# Altium footprint library Ports3.96.PcbLib: 14 footprints
Each footprint in its own frame and in the unit in brackets; x right, y up, seen from the top. Pads: shape width x height; smd on the part's side, far side on the other; paste and mask are expansions set on the pad; w line width, h text height; cw(c..) or ccw(c..) is an arc to the next point about the centre after c.
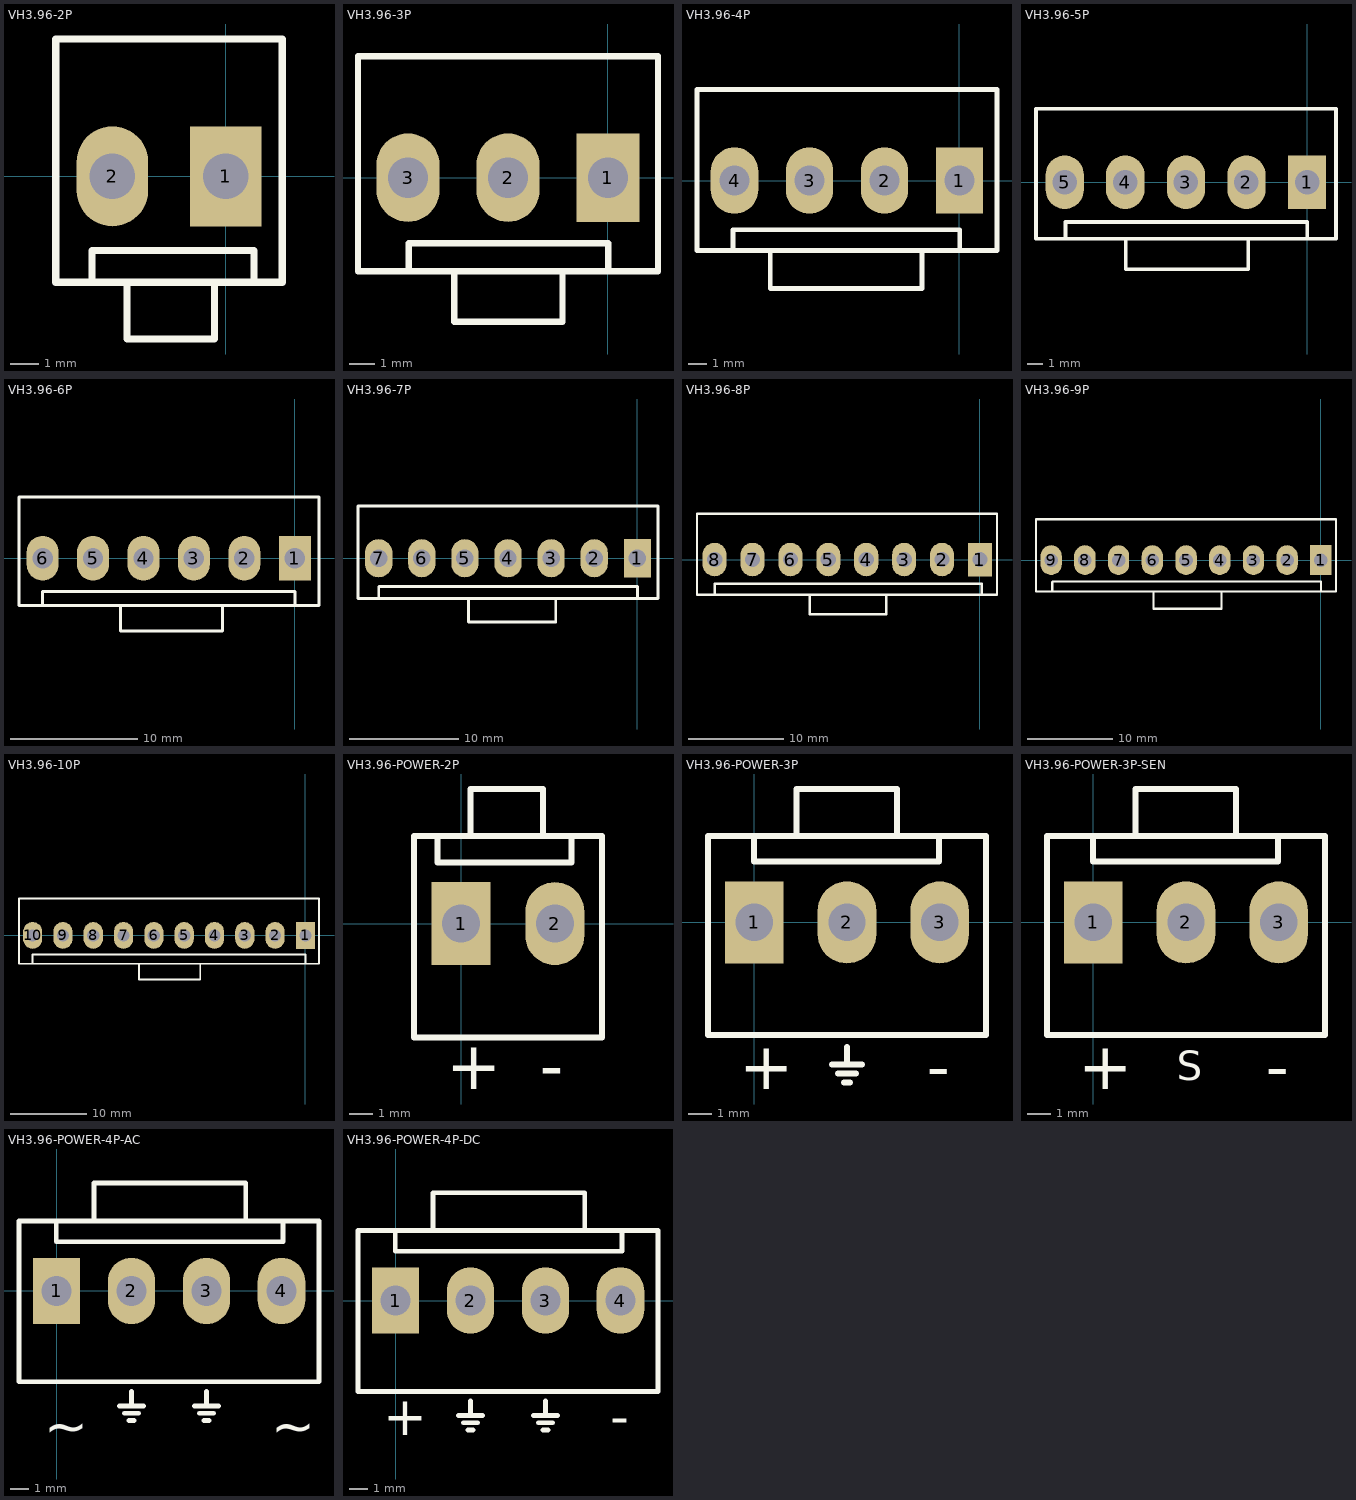
[diagram p0: the footprints below, top view; thin cyan lines are the x and y axes]

## VH3.96-2P [mm]
pads (2):
  rect 2.5x3.5 hole 1.6: 1(0,0)
  oval 2.5x3.5 hole 1.6: 2(-3.96,0)
Top Overlay:
  lines w0.254: -4.67,-3.669 -4.67,-2.591 0.989,-2.591 0.989,-3.69 ; -3.451,-3.701 -3.451,-5.685 -0.387,-5.685 -0.387,-3.7 ; -5.94,-3.7 1.98,-3.7 1.98,4.8 -5.94,4.8 -5.94,-3.7

## VH3.96-3P [mm]
pads (3):
  rect 2.5x3.5 hole 1.6: 1(0,0)
  oval 2.5x3.5 hole 1.6: 2(-3.96,0) 3(-7.92,0)
Top Overlay:
  lines w0.254: -7.894,-3.7 -7.894,-2.606 ; -7.889,-2.601 0.014,-2.601 0.014,-3.7 ; -6.091,-3.7 -6.091,-5.7 -1.803,-5.7 -1.803,-3.7 ; -9.9,-3.7 1.98,-3.7 1.98,4.8 -9.9,4.8 -9.9,-3.7

## VH3.96-4P [mm]
pads (4):
  rect 2.5x3.5 hole 1.6: 1(0,0)
  oval 2.5x3.5 hole 1.6: 2(-3.96,0) 3(-7.92,0)
  oval 2.524x3.5 hole 1.6: 4(-11.88,0)
Top Overlay:
  lines w0.254: -11.958,-3.7 -11.958,-2.606 -11.953,-2.601 0.014,-2.601 0.014,-3.7 ; -9.992,-3.7 -9.992,-5.692 -1.976,-5.692 -1.976,-3.7 ; -13.86,-3.7 1.98,-3.7 1.98,4.8 -13.86,4.8 -13.86,-3.7
3D body: height 1, standoff 0, extent -13.86,-5.692 1.98,4.8

## VH3.96-5P [mm]
pads (5):
  rect 2.5x3.5 hole 1.6: 1(0,0)
  oval 2.5x3.5 hole 1.6: 2(-3.96,0) 3(-7.92,0) 5(-15.84,0)
  oval 2.524x3.5 hole 1.6: 4(-11.88,0)
Top Overlay:
  lines w0.254: -15.802,-3.7 -15.802,-2.606 ; -15.797,-2.601 0.014,-2.601 0.014,-3.7 ; -11.855,-3.7 -11.855,-5.692 -3.839,-5.692 -3.839,-3.7 ; -17.72,-3.7 1.895,-3.7 1.895,4.8 -17.72,4.8 -17.72,-3.7

## VH3.96-6P [mm]
pads (6):
  rect 2.5x3.5 hole 1.6: 1(0,0)
  oval 2.5x3.5 hole 1.6: 2(-3.96,0) 3(-7.92,0) 5(-15.84,0) 6(-19.8,0)
  oval 2.524x3.5 hole 1.6: 4(-11.88,0)
Top Overlay:
  lines w0.254: -19.8,-3.7 -19.8,-2.606 ; -19.795,-2.601 0.014,-2.601 0.014,-3.7 ; -13.692,-3.7 -13.692,-5.7 -5.676,-5.7 -5.676,-3.7 ; -21.65,-3.7 1.895,-3.7 1.895,4.8 -21.65,4.8 -21.65,-3.7
3D body "026192061.stp": height 15.02, standoff -4.03, extent -21.664,-3.344 2.106,3.556

## VH3.96-7P [mm]
pads (7):
  rect 2.5x3.5 hole 1.6: 1(0,0)
  oval 2.5x3.5 hole 1.6: 2(-3.96,0) 3(-7.92,0) 5(-15.84,0) 6(-19.8,0)
  oval 2.524x3.5 hole 1.6: 4(-11.88,0) 7(-23.76,0)
Top Overlay:
  lines w0.254: -23.74,-3.7 -23.74,-2.606 ; -23.735,-2.601 0.014,-2.601 0.014,-3.7 ; -15.506,-3.851 -15.506,-5.851 -7.49,-5.851 -7.49,-3.851 ; -25.655,-3.7 1.895,-3.7 1.895,4.8 -25.655,4.8 -25.655,-3.7

## VH3.96-8P [mm]
pads (8):
  rect 2.5x3.5 hole 1.6: 1(0,0)
  oval 2.5x3.5 hole 1.6: 2(-3.96,0) 3(-7.92,0) 5(-15.84,0) 6(-19.8,0) 8(-27.72,0)
  oval 2.524x3.5 hole 1.6: 4(-11.88,0) 7(-23.76,0)
Top Overlay:
  lines w0.254: -27.723,-3.625 -27.723,-2.531 0.18,-2.531 0.18,-3.63 ; -17.791,-3.739 -17.791,-5.739 -9.775,-5.739 -9.775,-3.739 ; -29.56,-3.7 1.785,-3.7 1.785,4.8 -29.56,4.8 -29.56,-3.7

## VH3.96-9P [mm]
pads (9):
  rect 2.5x3.5 hole 1.6: 1(0,0)
  oval 2.5x3.5 hole 1.6: 2(-3.96,0) 3(-7.92,0) 4(-11.88,0) 6(-19.8,0) 7(-23.76,0) 9(-31.68,0)
  oval 2.524x3.5 hole 1.6: 5(-15.84,0) 8(-27.72,0)
Top Overlay:
  lines w0.254: -31.56,-3.7 -31.56,-2.606 ; -31.534,-2.5 0,-2.5 0,-3.599 ; -19.675,-3.711 -19.675,-5.711 -11.659,-5.711 -11.659,-3.711 ; -33.465,-3.7 1.78,-3.7 1.78,4.8 -33.465,4.8 -33.465,-3.7

## VH3.96-10P [mm]
pads (10):
  rect 2.5x3.5 hole 1.6: 1(0,0)
  oval 2.5x3.5 hole 1.6: 2(-3.96,0) 3(-7.92,0) 4(-11.88,0) 6(-19.8,0) 7(-23.76,0) 9(-31.68,0) 10(-35.64,0)
  oval 2.524x3.5 hole 1.6: 5(-15.84,0) 8(-27.72,0)
Top Overlay:
  lines w0.254: -35.64,-3.614 -35.64,-2.52 ; -35.62,-2.5 0,-2.5 0,-3.599 ; -21.751,-3.739 -21.751,-5.739 -13.735,-5.739 -13.735,-3.739 ; -37.42,-3.7 -37.42,4.8 1.78,4.8 1.78,-3.7 -37.42,-3.7

## VH3.96-POWER-2P [mm]
pads (2):
  rect 2.5x3.5 hole 1.6: 1(0,0)
  oval 2.5x3.5 hole 1.6: 2(3.96,0)
Top Overlay:
  lines w0.254: -0.989,3.69 -0.989,2.591 4.67,2.591 4.67,3.669 ; 0.387,3.7 0.387,5.685 3.451,5.685 3.451,3.701 ; -1.98,-4.8 -1.98,3.7 5.94,3.7 5.94,-4.8 -1.98,-4.8
  text "+" at -0.635,-6.985 h2.03
  text "-" at 3.325,-6.985 h2.03
3D body "4872.stp": height 15.37, standoff -2.92, extent -1.803,-5.715 5.969,4.293

## VH3.96-POWER-3P [mm]
pads (3):
  rect 2.5x3.5 hole 1.6: 1(0,0)
  oval 2.5x3.5 hole 1.6: 2(3.96,0) 3(7.92,0)
Top Overlay:
  lines w0.254: -0.014,3.7 -0.014,2.601 7.889,2.601 ; 1.803,3.7 1.803,5.7 6.091,5.7 6.091,3.7 ; 3.325,-6.073 4.595,-6.073 ; 3.579,-6.454 4.341,-6.454 ; 3.833,-6.835 4.087,-6.835 ; 3.96,-6.073 3.96,-5.311 ; 7.894,2.606 7.894,3.7 ; -1.98,-4.8 9.9,-4.8 9.9,3.7 -1.98,3.7 -1.98,-4.8
  text "+" at -0.635,-7.112 h2.03
  text "-" at 7.366,-7.112 h2.03

## VH3.96-POWER-3P-SEN [mm]
pads (3):
  rect 2.5x3.5 hole 1.6: 1(0,0)
  oval 2.5x3.5 hole 1.6: 2(3.96,0) 3(7.92,0)
Top Overlay:
  lines w0.254: -0.014,3.7 -0.014,2.601 7.889,2.601 ; 1.803,3.7 1.803,5.7 6.091,5.7 6.091,3.7 ; 7.894,2.606 7.894,3.7 ; -1.98,-4.8 9.9,-4.8 9.9,3.7 -1.98,3.7 -1.98,-4.8
  text "+" at -0.635,-7.112 h2.03
  text "S" at 3.556,-6.731 h1.27
  text "-" at 7.366,-7.112 h2.03

## VH3.96-POWER-4P-AC [mm]
pads (4):
  rect 2.5x3.5 hole 1.6: 1(0,0)
  oval 2.5x3.5 hole 1.6: 2(3.96,0) 3(7.92,0)
  oval 2.524x3.5 hole 1.6: 4(11.88,0)
Top Overlay:
  lines w0.254: -0.014,3.7 -0.014,2.601 11.953,2.601 11.958,2.606 11.958,3.7 ; 1.976,3.7 1.976,5.692 9.992,5.692 9.992,3.7 ; 3.325,-6.073 4.595,-6.073 ; 3.579,-6.454 4.341,-6.454 ; 3.833,-6.835 4.087,-6.835 ; 3.96,-6.073 3.96,-5.311 ; 7.285,-6.073 8.555,-6.073 ; 7.539,-6.454 8.301,-6.454 ; 7.793,-6.835 8.047,-6.835 ; 7.92,-6.073 7.92,-5.311 ; -1.98,-4.8 -1.98,3.7 13.86,3.7 13.86,-4.8 -1.98,-4.8
  text "~" at 11.326,-8.128 h2.03
  text "~" at -0.635,-8.128 h2.03
3D body: height 1, standoff 0, extent -1.98,-4.8 13.86,5.692

## VH3.96-POWER-4P-DC [mm]
pads (4):
  rect 2.5x3.5 hole 1.6: 1(0,0)
  oval 2.5x3.5 hole 1.6: 2(3.96,0) 3(7.92,0)
  oval 2.524x3.5 hole 1.6: 4(11.88,0)
Top Overlay:
  lines w0.254: -0.014,3.7 -0.014,2.601 11.953,2.601 11.958,2.606 11.958,3.7 ; 1.976,3.7 1.976,5.692 9.992,5.692 9.992,3.7 ; 3.325,-6.073 4.595,-6.073 ; 3.579,-6.454 4.341,-6.454 ; 3.833,-6.835 4.087,-6.835 ; 3.96,-6.073 3.96,-5.311 ; 7.285,-6.073 8.555,-6.073 ; 7.539,-6.454 8.301,-6.454 ; 7.793,-6.835 8.047,-6.835 ; 7.92,-6.073 7.92,-5.311 ; -1.98,-4.8 -1.98,3.7 13.86,3.7 13.86,-4.8 -1.98,-4.8
  text "-" at 11.326,-7.112 h2.03
  text "+" at -0.635,-7.112 h2.03
3D body: height 1, standoff 0, extent -1.98,-4.8 13.86,5.692